# EAGLE library part WE-HCM_1820_THREE-TURNS (library Wurth_Power Magnetics_WE-HCM)
WE-HCM SMD High Current Flat Wire Inductor Characteristics Lowest core losses (MnZn) High saturation current up to 125 A Extremly low DCR Magnetically shielded Operating temperature: –40 °C to +125 °C Recommended solder profile: Reflow Applications Multiphase switching regulator Multiphase switching regulator CPU/RAM power supply Power PC Filter <https://www.we-online.com/catalog/media/o14798v209%20Family_WE-HCM.jpg> Details see: https://www.we-online.com/catalog/en/WE-HCM/ Updated by Ella Wu 2019-06-22 2020 (C) Wurth Elektronik
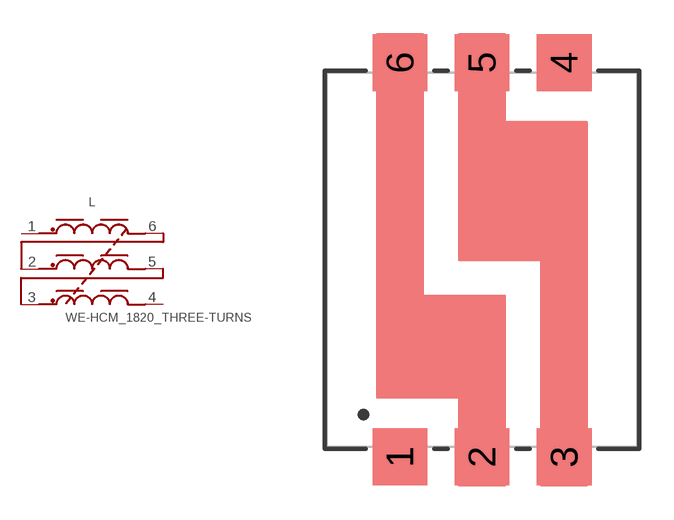
[diagram p1: symbol with the pads of WE-HCM_1820_THREE-TURNS; footprint WE-HCM_1820_THREE-TURNS]

Designator prefix L

## WE-HCM_1820_THREE-TURNS_74431821100 (DATASHEET-URL: https://www.we-online.com/catalog/datasheet/74431821100.pdf; FRES: 26MHz; IR: 23A; ISAT: 8A; LR: 0.1uH; MATERIAL: MnZn; MOUNT: SMT; PART-NUMBER: 74431821100; RDC: 0.33mOhm; VALUE: 1uH)  [WE-HCM_1820_THREE-TURNS]
1  1  pas
2  2  pas
3  3  pas
4  4  pas
5  5  pas
6  6  pas

## Footprint WE-HCM_1820_THREE-TURNS (pad centres in mm)
WE-HCM SMD High Current Flat Wire Inductor Size: 1820,SMT,6Pins,Three turns
smd 2.4 x 2.5: 1 -3.6,-8.65; 2 0,-8.65; 3 3.6,-8.65; 4 3.6,8.65; 5 0,8.65; 6 -3.6,8.65